# Altium footprint library ph50x2.PcbLib: 1 footprints
Each footprint in its own frame and in the unit in brackets; x right, y up, seen from the top. Pads: shape width x height; smd on the part's side, far side on the other; paste and mask are expansions set on the pad; w line width, h text height; cw(c..) or ccw(c..) is an arc to the next point about the centre after c.
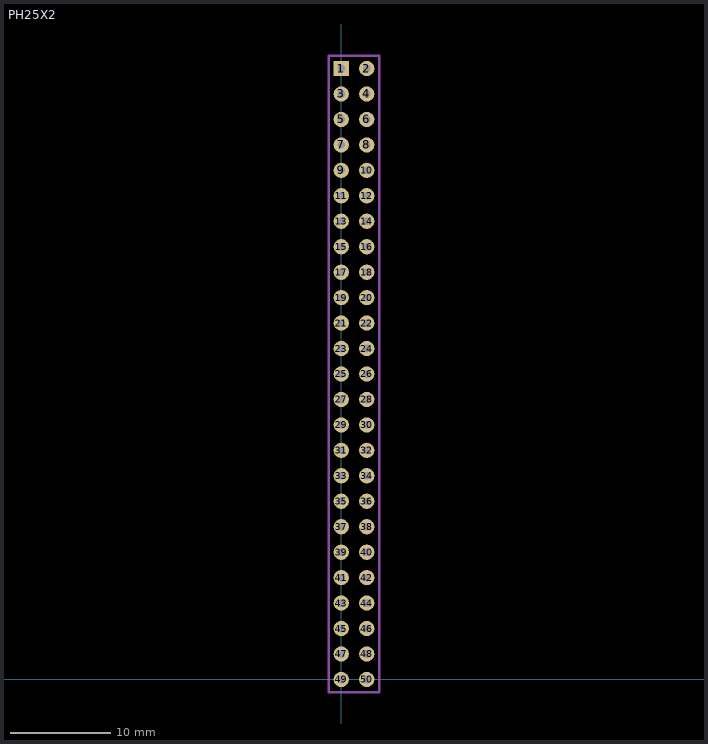
[diagram p0: the footprint, top view; thin cyan lines are the x and y axes]

## PH25X2 [mil]
pads (50):
  rect 60x60 hole 30: 1(0,2400)
  round 60 hole 30: 2(100,2400) 3(0,2300) 4(100,2300) 5(0,2200) 6(100,2200) 7(0,2100) 8(100,2100) 9(0,2000) 10(100,2000) 11(0,1900) 12(100,1900) 13(0,1800) 14(100,1800) 15(0,1700) 16(100,1700) 17(0,1600) 18(100,1600) 19(0,1500) 20(100,1500) 21(0,1400) 22(100,1400) 23(0,1300) 24(100,1300) 25(0,1200) 26(100,1200) 27(0,1100) 28(100,1100) 29(0,1000) 30(100,1000) 31(0,900) 32(100,900) 33(0,800) 34(100,800) 35(0,700) 36(100,700) 37(0,600) 38(100,600) 39(0,500) 40(100,500) 41(0,400) 42(100,400) 43(0,300) 44(100,300) 45(0,200) 46(100,200) 47(0,100) 48(100,100) 49(0,0) 50(100,0)
Mechanical 1:
  lines w10: -50,-50 -50,2450 150,2450 150,-50 -50,-50